# Altium schematic symbol library CRYSTAL 2PIN.Schlib: 1 symbol
Pins are listed as number, name and electrical type; pins without a type are passive.

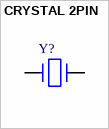
[diagram p0: symbol CRYSTAL 2PIN]

## CRYSTAL 2PIN
designator Y?
pins: 1, 2